# Altium footprint library Compute_module.PcbLib: 9 footprints
Each footprint in its own frame and in the unit in brackets; x right, y up, seen from the top. Pads: shape width x height; smd on the part's side, far side on the other; paste and mask are expansions set on the pad; w line width, h text height; cw(c..) or ccw(c..) is an arc to the next point about the centre after c.
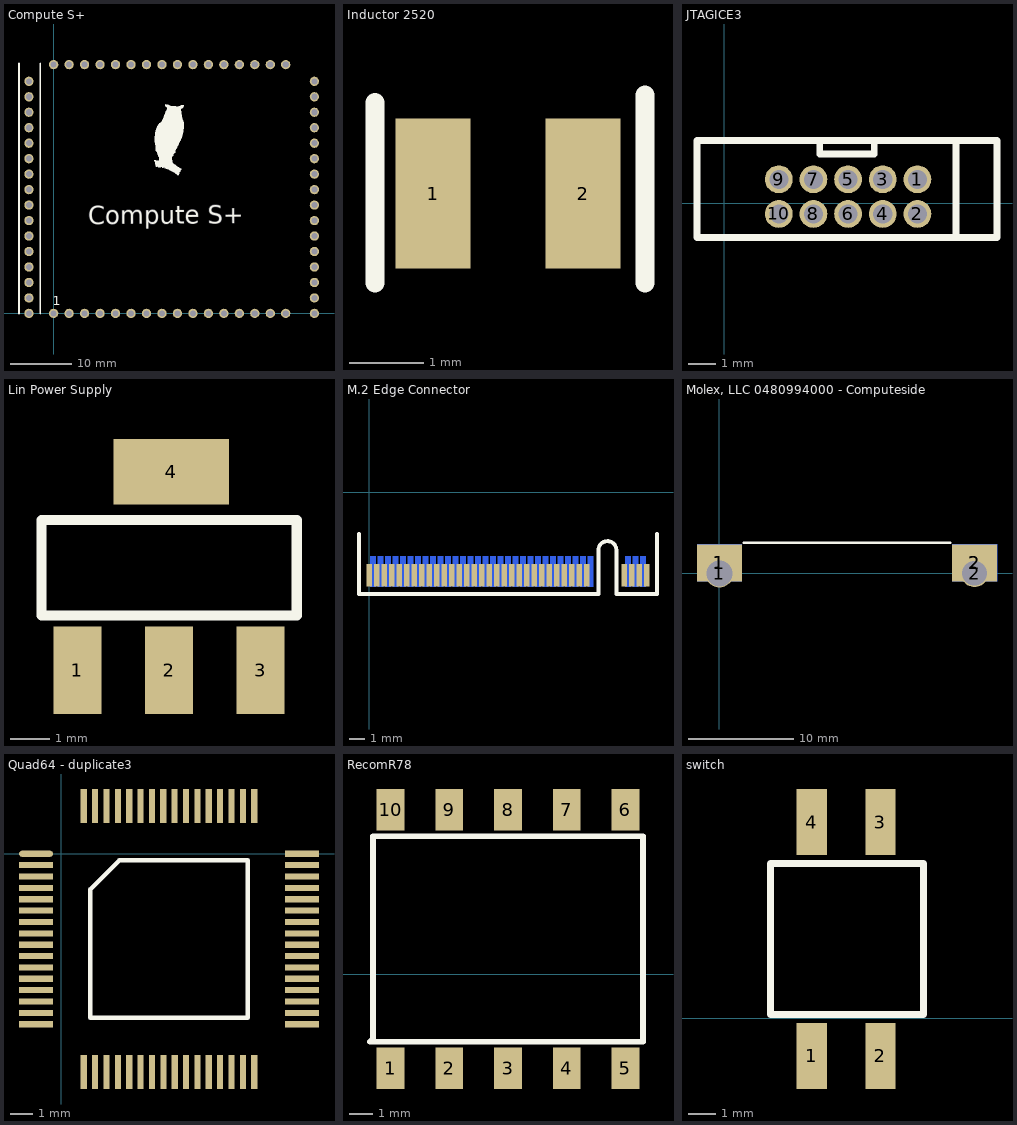
[diagram p0: the footprints below, top view; thin cyan lines are the x and y axes]

## Compute S+ [mil]
height 346.46
pads (64):
  round 60 hole 39.37: CANH(1000,1607.95) CANL(1100,1607.95) GND(-160,900) GND(100,1607.95) GND(600,0) GND(900,1607.95) GND(1685,600) GND(1685,1400) PA00(-160,1500) PA01(-160,1400) PA02(-160,1300) PA03(-160,1200) PA04(-160,300) PA05(-160,200) PA06(-160,100) PA07(-160,0) PA08(0,0) PA09(100,0) PA10(200,0) PA11(300,0) PA12(1200,0) PA13(1300,0) PA14(1400,0) PA15(1500,0) PA16(1685,0) PA17(1685,100) PA18(1685,200) PA19(1685,300) PA20(1685,800) PA21(1685,900) PA22(1685,1000) PA23(1685,1100) PA24(1685,1200) PA25(1685,1300) PA27(1500,1607.95) PA28(1400,1607.95) PA30(1300,1607.95) PA31(1200,1607.95) PB00(500,1607.95) PB01(400,1607.95) PB02(300,1607.95) PB03(200,1607.95) PB04(-160,1100) PB05(-160,1000) PB06(-160,700) PB07(-160,600) PB08(-160,500) PB09(-160,400) PB10(400,0) PB11(500,0) PB12(800,0) PB13(900,0) PB14(1000,0) PB15(1100,0) PB16(1685,400) PB17(1685,500) PB30(700,1607.95) PB31(600,1607.95) VDD(-160,800) VDD(0,1607.95) VDD(700,0) VDD(800,1607.95) VDD(1685,700) VDD(1685,1500)
Top Overlay:
  drawing of 3 lines, arcs and shapes, not listed
  text "Compute S+" at 222.44,538.19 h196.85
  text "1" at -7.09,51.57 h60
3D body "V2_SP.step": height 549.33, standoff 19.68, extent -261.2,-83.86 1773.8,1726.14

## Inductor 2520 [mm]
pads (2):
  rect 1x2 smd: 1(3.175,-7.112) 2(5.175,-7.112)
Top Overlay:
  lines w0.254: 2.4,-8.3 2.4,-5.9 ; 6,-8.3 6,-5.8

## JTAGICE3 [mm]
pads (10):
  round 1.02 hole 0.7 paste+0: 1(7.08,0.87) 2(7.08,-0.4) 3(5.81,0.87) 4(5.81,-0.4) 5(4.54,0.87) 6(4.54,-0.4) 7(3.27,0.87) 8(3.27,-0.4) 9(2,0.87) 10(2,-0.4)
Top Overlay:
  lines w0.254: 3.5,2.3 3.5,1.8 5.5,1.8 5.5,2.3 ; 8.49,-1.27 8.49,2.25 ; -1,-1.27 -1,2.3 10,2.3 10,-1.27 -1,-1.27

## Lin Power Supply [mm] "IC REG LIN POS ADJ 800MA SOT223"
pads (4):
  rect 1.2x2.2 smd: 1(-6.7,3.62) 2(-4.4,3.62) 3(-2.1,3.62)
  rect 2.9x1.65 smd: 4(-4.34,8.61)
Top Overlay:
  lines w0.254: -7.6,5 -7.6,7.4 -7.28,7.4 -3.11,7.4 -1.19,7.4 -1.19,5 -7.6,5

## M.2 Edge Connector [mm]
pads (67):
  rect 0.34x1.5 smd: 1(0,-5.55) 3(0.5,-5.55) 5(1,-5.55) 7(1.5,-5.55) 9(2,-5.55) 11(2.5,-5.55) 13(3,-5.55) 15(3.5,-5.55) 17(4,-5.55) 19(4.5,-5.55) 21(5,-5.55) 23(5.5,-5.55) 25(6,-5.55) 27(6.5,-5.55) 29(7,-5.55) 31(7.5,-5.55) 33(8,-5.55) 35(8.5,-5.55) 37(9,-5.55) 39(9.5,-5.55) 41(10,-5.55) 43(10.5,-5.55) 45(11,-5.55) 47(11.5,-5.55) 49(12,-5.55) 51(12.5,-5.55) 53(13,-5.55) 55(13.5,-5.55) 57(14,-5.55) 59(14.5,-5.55) 61(17,-5.55) 63(17.5,-5.55) 65(18,-5.55) 67(18.5,-5.55)
  rect 0.34x2 smd far side: 2(0.25,-5.3) 4(0.75,-5.3) 6(1.25,-5.3) 8(1.75,-5.3) 10(2.25,-5.3) 12(2.75,-5.3) 14(3.25,-5.3) 16(3.75,-5.3) 18(4.25,-5.3) 20(4.75,-5.3) 22(5.25,-5.3) 24(5.75,-5.3) 26(6.25,-5.3) 28(6.75,-5.3) 30(7.25,-5.3) 32(7.75,-5.3) 34(8.25,-5.3) 36(8.75,-5.3) 38(9.25,-5.3) 40(9.75,-5.3) 42(10.25,-5.3) 44(10.75,-5.3) 46(11.25,-5.3) 48(11.75,-5.3) 50(12.25,-5.3) 52(12.75,-5.3) 54(13.25,-5.3) 56(13.75,-5.3) 58(14.25,-5.3) 60(14.75,-5.3) 62(17.25,-5.3) 64(17.75,-5.3) 66(18.25,-5.3)
Top Overlay:
  lines w0.254: -0.675,-2.8 -0.675,-6.8 15.275,-6.8 15.275,-5 15.275,-3.9 cw(c15.875,-3.875) 16.476,-3.875 ; 16.475,-3.876 16.475,-5 16.475,-6.8 19.175,-6.8 19.175,-2.8

## Molex, LLC 0480994000 - Computeside [mm]
pads (6):
  round 2.7 hole 2.45: 1(0,0)
  rect 4.25x3.5 smd: 1(0,1) 2(24.2,1)
  rect 4.25x3.5 smd far side: 1(0,1) 2(24.2,1)
  round 2.6 hole 2.35: 2(24.2,0)
Top Overlay:
  lines w0.254: 2.3,2.9 21.9,2.9

## Quad64 - duplicate3 [mm]
pads (64):
  oval 1.5x0.27 smd: 0(-1.1,0)
  rect 1.5x0.27 smd: 1(-1.1,-0.5) 2(-1.1,-1) 3(-1.1,-1.5) 4(-1.1,-2) 5(-1.1,-2.5) 6(-1.1,-3) 7(-1.1,-3.5) 8(-1.1,-4) 9(-1.1,-4.5) 10(-1.1,-5) 11(-1.1,-5.5) 12(-1.1,-6) 13(-1.1,-6.5) 14(-1.1,-7) 15(-1.1,-7.5) 32(10.6,-7.5) 33(10.6,-7) 34(10.6,-6.5) 35(10.6,-6) 36(10.6,-5.5) 37(10.6,-5) 38(10.6,-4.5) 39(10.6,-4) 40(10.6,-3.5) 41(10.6,-3) 42(10.6,-2.5) 43(10.6,-2) 44(10.6,-1.5) 45(10.6,-1) 46(10.6,-0.5) 47(10.6,0)
  rect 0.27x1.5 smd: 16(1,-9.6) 17(1.5,-9.6) 18(2,-9.6) 19(2.5,-9.6) 20(3,-9.6) 21(3.5,-9.6) 22(4,-9.6) 23(4.5,-9.6) 24(5,-9.6) 25(5.5,-9.6) 26(6,-9.6) 27(6.5,-9.6) 28(7,-9.6) 29(7.5,-9.6) 30(8,-9.6) 31(8.5,-9.6) 48(8.5,2.1) 49(8,2.1) 50(7.5,2.1) 51(7,2.1) 52(6.5,2.1) 53(6,2.1) 54(5.5,2.1) 55(5,2.1) 56(4.5,2.1) 57(4,2.1) 58(3.5,2.1) 59(3,2.1) 60(2.5,2.1) 61(2,2.1) 62(1.5,2.1) 63(1,2.1)
Top Overlay:
  lines w0.2: 1.285,-7.215 1.285,-1.57 2.57,-0.285 8.215,-0.285 8.215,-7.215 1.285,-7.215

## RecomR78 [mm]
pads (10):
  rect 1.2x1.8 smd: 1(-13.716,-4.064) 2(-11.176,-4.064) 3(-8.636,-4.064) 4(-6.096,-4.064) 5(-3.556,-4.064) 6(-3.556,7.112) 7(-6.096,7.112) 8(-8.636,7.112) 9(-11.176,7.112) 10(-13.716,7.112)
Top Overlay:
  lines w0.254: -14.605,-2.921 -14.478,-2.794 -14.478,5.969 -2.794,5.969 -2.794,-2.921 -14.605,-2.921

## switch [mm]
pads (4):
  rect 1.12x2.44 smd: 1(-13.335,-1.397) 2(-10.795,-1.397) 3(-10.795,7.239) 4(-13.335,7.239)
Top Overlay:
  lines w0.254: -14.859,0.127 -14.859,5.715 -9.2,5.715 -9.2,0.127 -14.859,0.127